# Altium footprint library CPU.PcbLib: 75 footprints (part 4 of 5)
Each footprint in its own frame and in the unit in brackets; x right, y up, seen from the top. Pads: shape width x height; smd on the part's side, far side on the other; paste and mask are expansions set on the pad; w line width, h text height; cw(c..) or ccw(c..) is an arc to the next point about the centre after c.
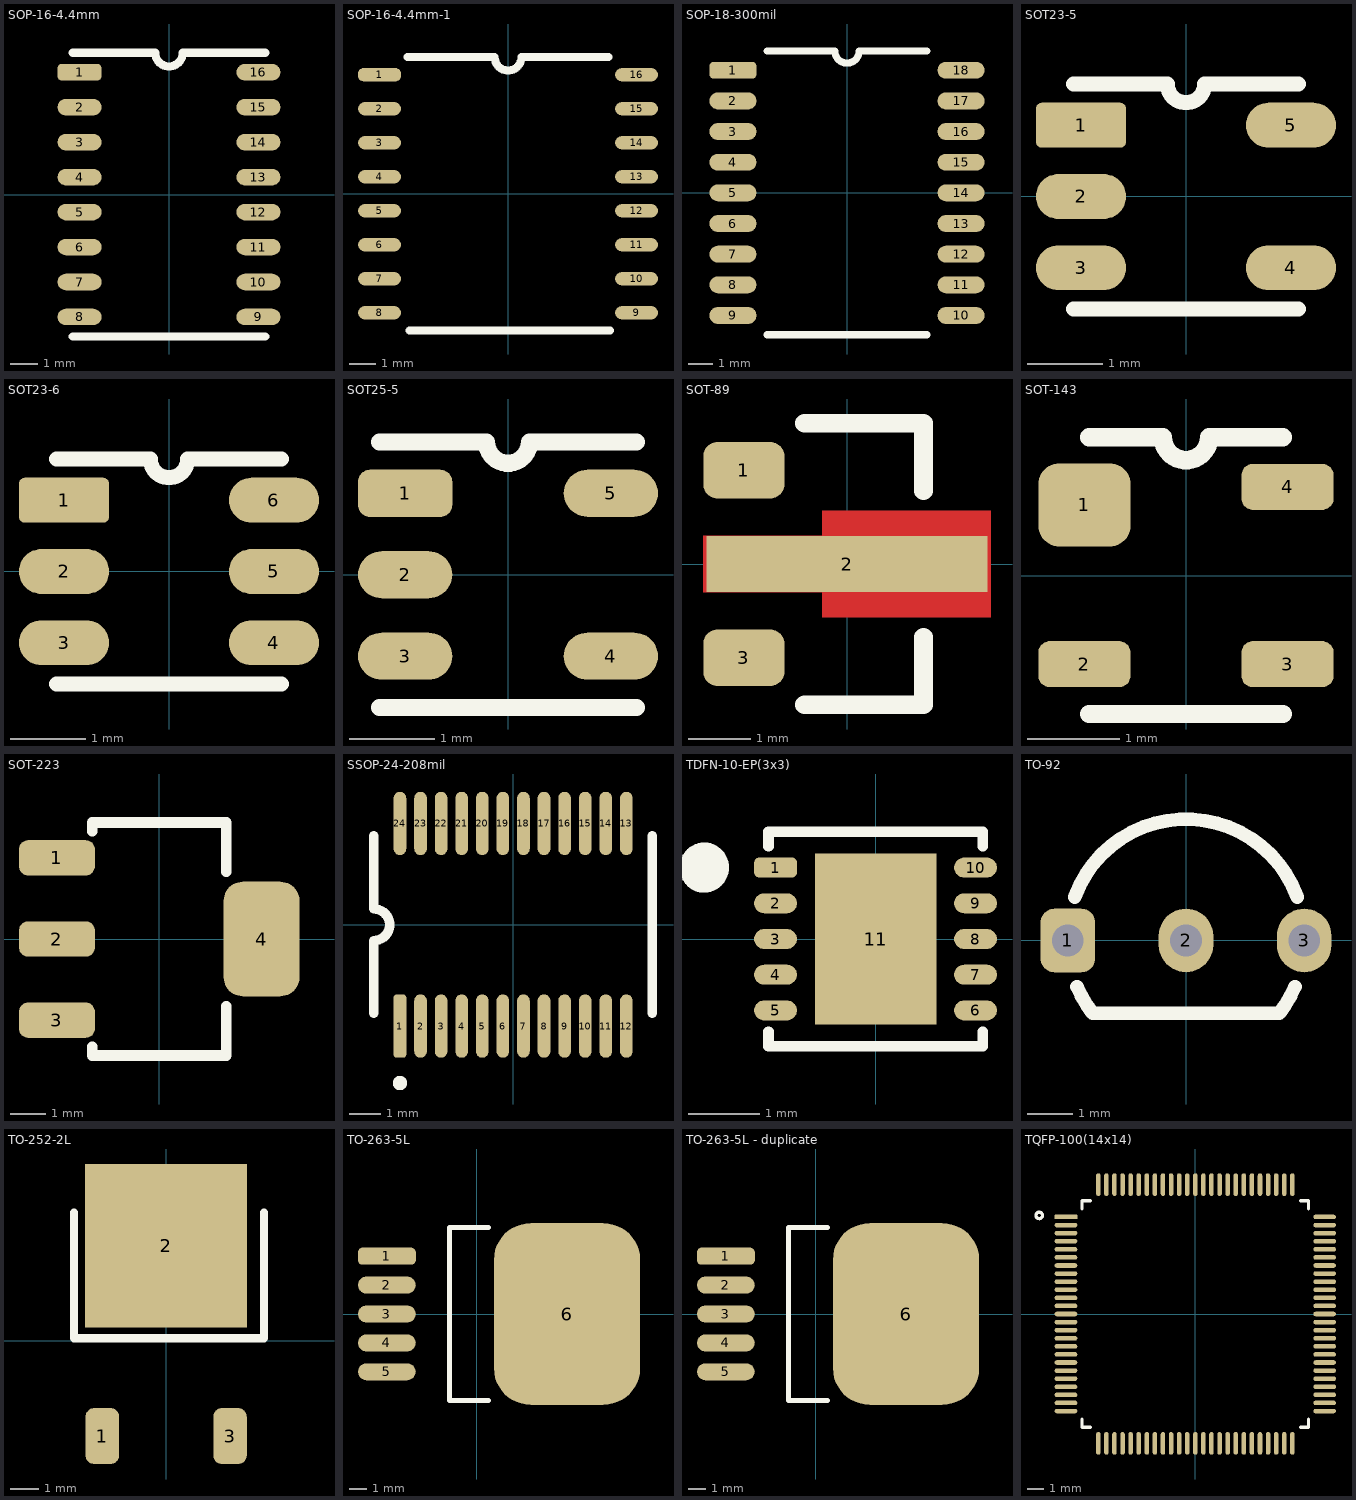
[diagram p3: the footprints below, top view; thin cyan lines are the x and y axes]

## SOP-16-4.4mm [mm]
pads (16):
  rrect50% 1.6x0.6 smd: 1(-3.25,4.445)
  oval 1.6x0.6 smd: 2(-3.25,3.175) 3(-3.25,1.905) 4(-3.25,0.635) 5(-3.25,-0.635) 6(-3.25,-1.905) 7(-3.25,-3.175) 8(-3.25,-4.445) 9(3.25,-4.445) 10(3.25,-3.175) 11(3.25,-1.905) 12(3.25,-0.635) 13(3.25,0.635) 14(3.25,1.905) 15(3.25,3.175) 16(3.25,4.445)
Top Overlay:
  lines w0.3: -3.5,-5.15 3.5,-5.15 ; -3.5,5.15 -0.5,5.15 ccw(c0,5.15) 0.5,5.15 3.5,5.15
3D body "step_temp.STEP": height 2.3, standoff 0, extent -3.5,-5.15 3.5,5.15

## SOP-16-4.4mm-1 [mm]
pads (16):
  rrect85% 1.61x0.5 smd: 1(-4.8,4.445)
  oval 1.6x0.5 smd: 2(-4.8,3.175) 3(-4.8,1.905) 4(-4.8,0.635) 5(-4.8,-0.635) 6(-4.8,-1.905) 7(-4.8,-3.175) 8(-4.8,-4.445) 9(4.8,-4.445) 10(4.8,-3.175) 11(4.8,-1.905) 12(4.8,-0.635) 13(4.8,0.635) 14(4.8,1.905) 15(4.8,3.175) 16(4.8,4.445)
Top Overlay:
  lines w0.3: -3.75,5.1 -0.5,5.1 ccw(c0,5.1) 0.5,5.1 3.75,5.1 ; -3.69,-5.1 3.81,-5.1
3D body "step_temp.STEP": height 2.65, standoff 0, extent -5.162,-5.15 5.162,5.15

## SOP-18-300mil [mm]
pads (18):
  rrect50% 1.95x0.7 smd: 1(-4.725,5.08)
  oval 1.95x0.7 smd: 2(-4.725,3.81) 3(-4.725,2.54) 4(-4.725,1.27) 5(-4.725,0) 6(-4.725,-1.27) 7(-4.725,-2.54) 8(-4.725,-3.81) 9(-4.725,-5.08) 10(4.725,-5.08) 11(4.725,-3.81) 12(4.725,-2.54) 13(4.725,-1.27) 14(4.725,0) 15(4.725,1.27) 16(4.725,2.54) 17(4.725,3.81) 18(4.725,5.08)
Top Overlay:
  lines w0.3: -3.3,-5.875 3.3,-5.875 ; -3.3,5.875 -0.5,5.875 ccw(c0,5.875) 0.5,5.875 3.3,5.875
3D body "DW0018A.stp": height 2.59, standoff 0, extent -5.167,-5.775 5.167,5.775

## SOT23-5 [mm]
pads (5):
  rrect25% 1.2x0.6 smd: 1(-1.4,0.95)
  oval 1.2x0.6 smd: 2(-1.4,0) 3(-1.4,-0.95) 4(1.4,-0.95) 5(1.4,0.95)
Top Overlay:
  lines w0.2: -1.5,-1.5 1.5,-1.5 ; -1.5,1.5 -0.25,1.5 ccw(c0,1.5) 0.25,1.5 1.5,1.5
3D body "step_temp.STEP": height 1.45, standoff 0, extent -1.4,-1.45 1.4,1.45

## SOT23-6 [mm]
pads (6):
  rrect25% 1.2x0.6 smd: 1(-1.4,0.95)
  oval 1.2x0.6 smd: 2(-1.4,0) 3(-1.4,-0.95) 4(1.4,-0.95) 5(1.4,0) 6(1.4,0.95)
Top Overlay:
  lines w0.2: -1.5,-1.5 1.5,-1.5 ; -1.5,1.5 -0.25,1.5 ccw(c0,1.5) 0.25,1.5 1.5,1.5
3D body "step_temp.STEP": height 1.45, standoff 0, extent -1.4,-1.45 1.4,1.45

## SOT25-5 [mm]
pads (5):
  rrect50% 1.1x0.55 smd: 1(-1.2,0.95)
  oval 1.1x0.55 smd: 2(-1.2,0) 3(-1.2,-0.95) 4(1.2,-0.95) 5(1.2,0.95)
Top Overlay:
  lines w0.2: -1.5,-1.55 1.5,-1.55 ; -1.5,1.55 -0.25,1.55 ccw(c0,1.55) 0.25,1.55 1.5,1.55
3D body "step_temp.STEP": height 1.4, standoff 0, extent -1.4,-1.5 1.4,1.5

## SOT-89 [mm]
height 1.6
pads (3):
  rrect50% 1.3x0.9 smd: 1(-1.65,1.5) 3(-1.65,-1.5)
  rect 4.5x0.9 smd paste-1 mask+0: 2(0,0)
Top Layer:
  region: 2.3,-0.85 -0.4,-0.85 -0.4,-0.45 -2.3,-0.45 -2.3,0.45 -0.4,0.45 -0.4,0.85 2.3,0.85
Top Overlay:
  lines w0.3: -0.68,-2.25 1.222,-2.25 1.222,-1.17 ; -0.68,2.25 1.222,2.25 1.222,1.17
Top Paste:
  region: 0.76,-0.47 -0.21,-0.47 -0.21,0.47 0.76,0.47
  region: 2.11,-0.47 1.14,-0.47 1.14,0.47 2.11,0.47
  region: -0.51,-0.235 -1.24,-0.235 -1.24,0.235 -0.51,0.235
  region: -1.46,-0.235 -2.19,-0.235 -2.19,0.235 -1.46,0.235
Top Solder:
  region: 2.4,-0.95 -0.5,-0.95 -0.5,-0.55 -2.4,-0.55 -2.4,0.55 -0.5,0.55 -0.5,0.95 2.4,0.95
3D body "SOT-89.step": height 1.35, standoff 0, extent -2.119,-2.3 2.131,2.3

## SOT-143 [mm]
pads (4):
  rrect50% 1x0.9 smd: 1(-1.1,0.765)
  rrect50% 1x0.5 smd: 2(-1.1,-0.96) 3(1.1,-0.96) 4(1.1,0.96)
Top Overlay:
  lines w0.2: -1.05,-1.5 1.05,-1.5 ; -1.05,1.5 -0.25,1.5 ccw(c0,1.5) 0.25,1.5 1.05,1.5
3D body "step_temp.STEP": height 1.22, standoff 0, extent -1.185,-1.46 1.185,1.46

## SOT-223 [mm]
pads (4):
  rrect50% 2.15x1 smd: 1(-2.9,2.3) 2(-2.9,0) 3(-2.9,-2.3)
  rrect50% 2.15x3.25 smd: 4(2.9,0)
Top Overlay:
  lines w0.3: -1.9,-3.048 -1.9,-3.3 1.9,-3.3 1.9,-1.9 ; -1.9,3.048 -1.9,3.3 1.9,3.3 1.9,1.9
3D body "step_temp.STEP": height 1.8, standoff 0, extent -3.499,-3.25 3.499,3.25

## SSOP-24-208mil [mm]
pads (24):
  rrect50% 0.4x2 smd: 1(-3.575,-3.2)
  oval 0.4x2 smd: 2(-2.925,-3.2) 3(-2.275,-3.2) 4(-1.625,-3.2) 5(-0.975,-3.2) 6(-0.325,-3.2) 7(0.325,-3.2) 8(0.975,-3.2) 9(1.625,-3.2) 10(2.275,-3.2) 11(2.925,-3.2) 12(3.575,-3.2) 13(3.575,3.2) 14(2.925,3.2) 15(2.275,3.2) 16(1.625,3.2) 17(0.975,3.2) 18(0.325,3.2) 19(-0.325,3.2) 20(-0.975,3.2) 21(-1.625,3.2) 22(-2.275,3.2) 23(-2.925,3.2) 24(-3.575,3.2)
Top Overlay:
  circle w0.254: c-3.575,-5 r0.1
  lines w0.3: -4.4,-2.795 -4.4,-0.5 ccw(c-4.4,0) -4.4,0.5 -4.4,2.805 ; 4.4,-2.795 4.4,2.805
3D body "SSOP24L-150-0.64.STEP": height 1.63, standoff 0, extent -4.36,-2.997 4.36,2.997

## TDFN-10-EP(3x3) [mm]
pads (11):
  rrect50% 0.6x0.28 smd: 1(-1.4,1)
  oval 0.6x0.28 smd: 2(-1.4,0.5) 3(-1.4,0) 4(-1.4,-0.5) 5(-1.4,-1) 6(1.4,-1) 7(1.4,-0.5) 8(1.4,0) 9(1.4,0.5) 10(1.4,1)
  rect 1.7x2.4 smd: 11(0,0)
Top Overlay:
  circle w0.5: c-2.4,1 r0.1
  lines w0.15: -1.5,-1.3 -1.5,-1.5 1.5,-1.5 1.5,-1.3 ; -1.5,1.3 -1.5,1.5 1.5,1.5 1.5,1.3
3D body "TDFN50P-3MMX3MM-10 v0.step": height 0.86, standoff 0.1, extent -1.51,-1.5 1.51,1.5

## TO-92 [mm]
pads (3):
  rrect50% 1.2x1.4 hole 0.7: 1(-2.6,0)
  oval 1.2x1.4 hole 0.7: 2(0,0) 3(2.6,0)
Top Overlay:
  lines w0.3: -2.448,0.956 cw(c0,0.065) 2.448,0.956 ; -2.398,-1.018 ccw(c0,0) -2.053,-1.604 2.053,-1.604 ccw(c0,0) 2.398,-1.018
3D body "TO-92_line_pin_2_5mm_pitch.stp": height 8.2, standoff -3, extent -2.75,-1.85 2.75,2.512

## TO-252-2L [mm]
pads (3):
  rrect50% 1.2x2 smd mask+0.15: 1(-2.285,-3.406) 3(2.285,-3.406)
  rect 5.8x5.85 smd: 2(0,3.406)
Top Overlay:
  lines w0.3: -3.3,4.594 -3.3,0.094 3.5,0.094 3.5,4.594
3D body "TO-252-2L.STEP": height 2.29, standoff 0, extent -3.29,-3.896 3.29,6.044

## TO-263-5L [mm]
pads (6):
  rrect50% 3.4x1 smd paste-0.05 mask+0.15: 1(-5.3,3.4)
  oval 3.4x1 smd paste-0.05 mask+0.15: 2(-5.3,1.7) 3(-5.3,0) 4(-5.3,-1.7) 5(-5.3,-3.4)
  rrect50% 8.6x10.7 smd paste-0.05 mask+0.07: 6(5.3,0)
Top Overlay:
  lines w0.3: 0.68,-5.08 -1.605,-5.08 -1.605,5.08 0.68,5.08
3D body "step_temp.STEP": height 4.65, standoff -0.15, extent -6.175,-5.08 8.176,5.08

## TO-263-5L - duplicate [mm]
pads (6):
  rrect50% 3.4x1 smd paste-0.05 mask+0.15: 1(-5.3,3.4)
  oval 3.4x1 smd paste-0.05 mask+0.15: 2(-5.3,1.7) 3(-5.3,0) 4(-5.3,-1.7) 5(-5.3,-3.4)
  rrect50% 8.6x10.7 smd paste-0.05 mask+0.07: 6(5.3,0)
Top Overlay:
  lines w0.3: 0.68,-5.08 -1.605,-5.08 -1.605,5.08 0.68,5.08
3D body "step_temp.STEP": height 4.65, standoff -0.15, extent -6.175,-5.08 8.176,5.08

## TQFP-100(14x14) [mm]
height 1.2
pads (100):
  rrect25% 1.4x0.28 smd: 1(-8,6)
  oval 1.4x0.28 smd: 2(-8,5.5) 3(-8,5) 4(-8,4.5) 5(-8,4) 6(-8,3.5) 7(-8,3) 8(-8,2.5) 9(-8,2) 10(-8,1.5) 11(-8,1) 12(-8,0.5) 13(-8,0) 14(-8,-0.5) 15(-8,-1) 16(-8,-1.5) 17(-8,-2) 18(-8,-2.5) 19(-8,-3) 20(-8,-3.5) 21(-8,-4) 22(-8,-4.5) 23(-8,-5) 24(-8,-5.5) 25(-8,-6) 51(8,-6) 52(8,-5.5) 53(8,-5) 54(8,-4.5) 55(8,-4) 56(8,-3.5) 57(8,-3) 58(8,-2.5) 59(8,-2) 60(8,-1.5) 61(8,-1) 62(8,-0.5) 63(8,0) 64(8,0.5) 65(8,1) 66(8,1.5) 67(8,2) 68(8,2.5) 69(8,3) 70(8,3.5) 71(8,4) 72(8,4.5) 73(8,5) 74(8,5.5) 75(8,6)
  oval 0.28x1.4 smd: 26(-6,-8) 27(-5.5,-8) 28(-5,-8) 29(-4.5,-8) 30(-4,-8) 31(-3.5,-8) 32(-3,-8) 33(-2.5,-8) 34(-2,-8) 35(-1.5,-8) 36(-1,-8) 37(-0.5,-8) 38(0,-8) 39(0.5,-8) 40(1,-8) 41(1.5,-8) 42(2,-8) 43(2.5,-8) 44(3,-8) 45(3.5,-8) 46(4,-8) 47(4.5,-8) 48(5,-8) 49(5.5,-8) 50(6,-8) 76(6,8) 77(5.5,8) 78(5,8) 79(4.5,8) 80(4,8) 81(3.5,8) 82(3,8) 83(2.5,8) 84(2,8) 85(1.5,8) 86(1,8) 87(0.5,8) 88(0,8) 89(-0.5,8) 90(-1,8) 91(-1.5,8) 92(-2,8) 93(-2.5,8) 94(-3,8) 95(-3.5,8) 96(-4,8) 97(-4.5,8) 98(-5,8) 99(-5.5,8) 100(-6,8)
Top Overlay:
  circle w0.2: c-9.652,6.096 r0.2
  lines w0.2: -7,-6.5 -7,-7 -6.5,-7 ; -7,6.5 -7,7 -6.5,7 ; 6.5,-7 7,-7 7,-6.5 ; 6.5,7 7,7 7,6.5
3D body "ATMEGA2560-16AU--3DModel-STEP-56544.STEP": height 1.2, standoff 0, extent -8,-8 8,8